# EAGLE library part BMA423 (library koch)
ACCEL 2-16G I2C/SPI 12LGA Manufacturer's datasheet <https://ae-bst.resource.bosch.com/media/_tech/media/datasheets/BST-BMA253-DS000.pdf>
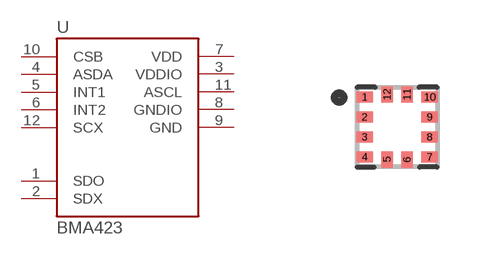
[diagram p9: symbol with the pads of LGA12; footprint LGA12]

Designator prefix U

## BMA423  [LGA12]
1  SDO
2  SDX
3  VDDIO
4  ASDA
5  INT1
6  INT2
7  VDD
8  GNDIO
9  GND
10  CSB
11  ASCL
12  SCX

## Footprint LGA12 (pad centres in mm)
smd 0.41 x 0.28: 1 -0.815,0.75; 2 -0.815,0.25; 3 -0.815,-0.25; 4 -0.815,-0.75; 7 0.815,-0.75; 8 0.815,-0.25; 9 0.815,0.25; 10 0.815,0.75
smd 0.28 x 0.41: 5 -0.25,-0.815; 6 0.25,-0.815; 11 0.25,0.815; 12 -0.25,0.815